# Altium schematic symbol library MIC29301-3.3WU-TR.SchLib: 1 symbol
Pins are listed as number, name and electrical type; pins without a type are passive.

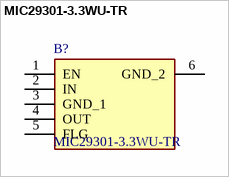
[diagram p0: symbol MIC29301-3.3WU-TR]

## MIC29301-3.3WU-TR
designator B?
LDO Voltage Regulators 3.0A LDO Fixed Voltage + Flag + Shutdown; Manufacturer_Name: Microchip; Geometry.Height: 5.08mm; Manufacturer_Part_Number: MIC29301-3.3WU-TR; Mouser Part Number: 998-MIC29301-3.3WUTR; Mouser Price/Stock: https://www.mouser.co.uk/ProductDetail/Microchip-Technology/MIC29301-3.3WU-TR?qs=U6T8BxXiZAWJme4uExHM0Q%3D%3D; Arrow Part Number: MIC29301-3.3WU-TR; Arrow Price/Stock: https://www.arrow.com/en/products/mic29301-3.3wu-tr/microchip-technology; Datasheet Link: http://www.microchip.com/mymicrochip/filehandler.aspx?ddocname=en580805
footprint MIC2930133WUTR
pins: 1 EN, 2 IN, 3 GND_1, 4 OUT, 5 FLG, 6 GND_2